# EAGLE library part MG323-B (library lib)
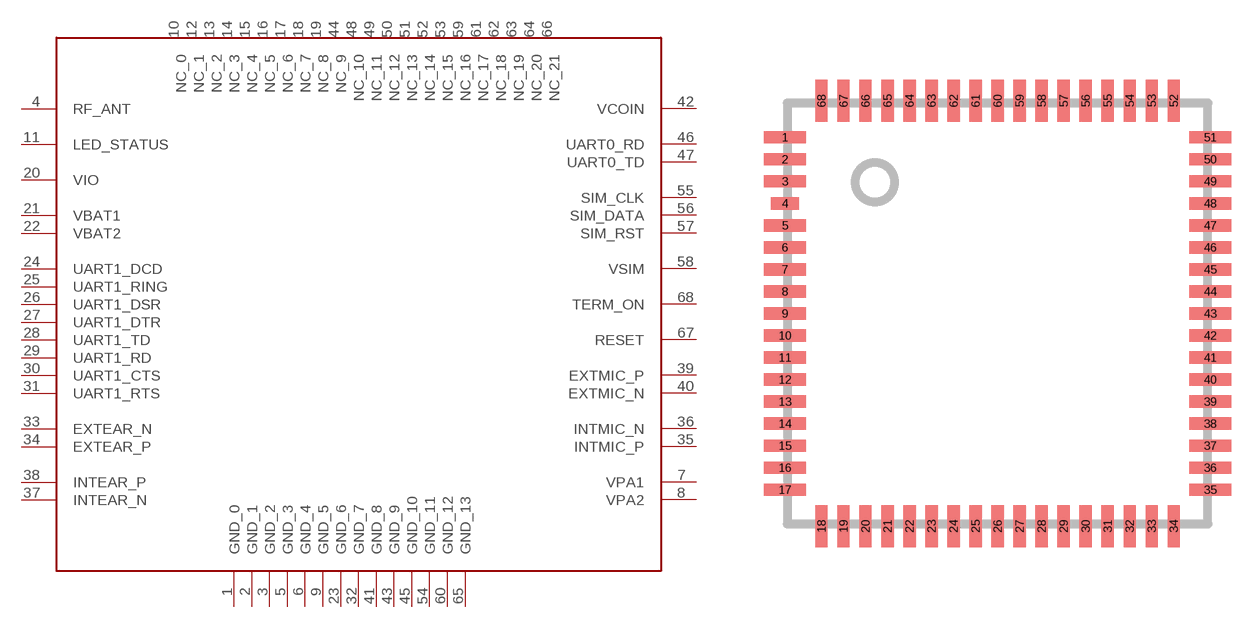
[diagram p2: symbol with the pads of MG323-B; footprint MG323-B]

Designator prefix -

## MG323-B  [MG323-B]
1  GND_0  pwr
2  GND_1  pwr
3  GND_2  pwr
4  RF_ANT
5  GND_3  pwr
6  GND_4  pwr
7  VPA1  pwr
8  VPA2  pwr
9  GND_5  pwr
10  NC_0  nc
11  LED_STATUS
12  NC_1  nc
13  NC_2  nc
14  NC_3  nc
15  NC_4  nc
16  NC_5  nc
17  NC_6  nc
18  NC_7  nc
19  NC_8  nc
20  VIO  pwr
21  VBAT1  pwr
22  VBAT2  pwr
23  GND_6  pwr
24  UART1_DCD
25  UART1_RING
26  UART1_DSR
27  UART1_DTR
28  UART1_TD
29  UART1_RD
30  UART1_CTS
31  UART1_RTS
32  GND_7  pwr
33  EXTEAR_N
34  EXTEAR_P
35  INTMIC_P
36  INTMIC_N
37  INTEAR_N
38  INTEAR_P
39  EXTMIC_P
40  EXTMIC_N
41  GND_8  pwr
42  VCOIN  pwr
43  GND_9  pwr
44  NC_9  nc
45  GND_10  pwr
46  UART0_RD
47  UART0_TD
48  NC_10  nc
49  NC_11  nc
50  NC_12  nc
51  NC_13  nc
52  NC_14  nc
53  NC_15  nc
54  GND_11  pwr
55  SIM_CLK
56  SIM_DATA
57  SIM_RST
58  VSIM  pwr
59  NC_16  nc
60  GND_12  pwr
61  NC_17  nc
62  NC_18  nc
63  NC_19  nc
64  NC_20  nc
65  GND_13  pwr
66  NC_21  nc
67  RESET
68  TERM_ON

## Footprint MG323-B (pad centres in mm)
smd 2.4 x 0.7: 1 -0.139,22.056; 2 -0.139,20.799; 3 -0.139,19.542; 5 -0.139,17.028; 6 -0.139,15.771; 7 -0.139,14.514; 8 -0.139,13.257; 9 -0.139,12; 10 -0.139,10.743; 11 -0.139,9.486; 12 -0.139,8.229; 13 -0.139,6.972; 14 -0.139,5.715; 15 -0.139,4.458; 16 -0.139,3.201; 17 -0.139,1.944; 35 24.139,1.944; 36 24.139,3.201; 37 24.139,4.458; 38 24.139,5.715; 39 24.139,6.972; 40 24.139,8.229; 41 24.139,9.486; 42 24.139,10.743; 43 24.139,12; 44 24.139,13.257; 45 24.139,14.514; 46 24.139,15.771; 47 24.139,17.028; 48 24.139,18.285; 49 24.139,19.542; 50 24.139,20.799; 51 24.139,22.056
smd 1.6 x 0.7: 4 -0.139,18.285
smd 0.7 x 2.4: 18 1.944,-0.139; 19 3.201,-0.139; 20 4.458,-0.139; 21 5.715,-0.139; 22 6.972,-0.139; 23 8.229,-0.139; 24 9.486,-0.139; 25 10.743,-0.139; 26 12,-0.139; 27 13.257,-0.139; 28 14.514,-0.139; 29 15.771,-0.139; 30 17.028,-0.139; 31 18.285,-0.139; 32 19.542,-0.139; 33 20.799,-0.139; 34 22.056,-0.139; 52 22.056,24.139; 53 20.799,24.139; 54 19.542,24.139; 55 18.285,24.139; 56 17.028,24.139; 57 15.771,24.139; 58 14.514,24.139; 59 13.257,24.139; 60 12,24.139; 61 10.743,24.139; 62 9.486,24.139; 63 8.229,24.139; 64 6.972,24.139; 65 5.715,24.139; 66 4.458,24.139; 67 3.201,24.139; 68 1.944,24.139